# Altium footprint library 2512_R.PcbLib: 1 footprints
Each footprint in its own frame and in the unit in brackets; x right, y up, seen from the top. Pads: shape width x height; smd on the part's side, far side on the other; paste and mask are expansions set on the pad; w line width, h text height; cw(c..) or ccw(c..) is an arc to the next point about the centre after c.
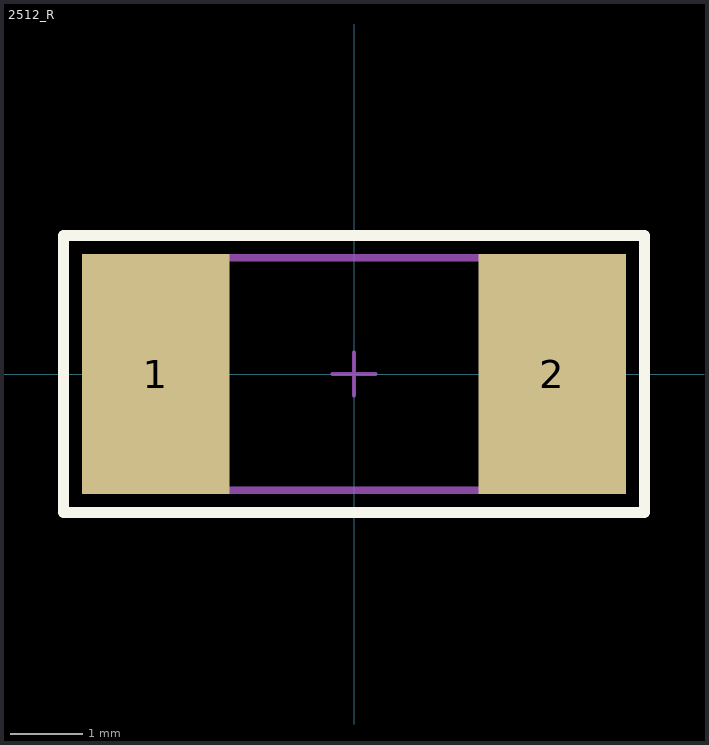
[diagram p0: the footprint, top view; thin cyan lines are the x and y axes]

## 2512_R [mil]
pads (2):
  rect 80x130 smd: 1(-107.5,0) 2(107.5,0)
Top Overlay:
  lines w6: -157.5,-75 -157.5,75 157.5,75 157.5,-75 -157.5,-75
Mechanical 13:
  lines w3.94: -118.11,-62.99 -129.92,-62.99 -129.92,62.99 -118.11,62.99 ; -118.11,-62.99 118.11,-62.99 ; -118.11,-62.99 -118.11,62.99 ; -118.11,62.99 118.11,62.99 ; 118.11,-62.99 129.92,-62.99 129.92,62.99 118.11,62.99 ; 118.11,-62.99 118.11,62.99
Mechanical 15:
  lines w1.97: -11.81,0 11.81,0 ; 0,-11.81 0,11.81
  lines w3.94: -157.5,-75 157.5,-75 157.5,75 -157.5,75 -157.5,-75
3D body: height 23.62, standoff 0, extent -118.11,-64.96 118.11,64.96
3D body: height 23.62, standoff 0, extent -129.9,-62.97 -118.13,62.97
3D body: height 23.62, standoff 0, extent 118.13,-62.97 129.9,62.97